# EAGLE library part TC7WZ07FK (library FaBo-LevelTranslator)
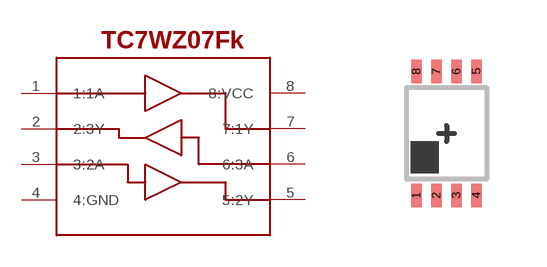
[diagram p15: symbol with the pads of SOT-765; footprint SOT-765]

Designator prefix -

## TC7WZ07FK  [SOT-765]
1  1:1A  in
2  2:3Y  oc
3  3:2A  in
4  4:GND  pwr
5  5:2Y  oc
6  6:3A  in
7  7:1Y  oc
8  8:VCC  pwr

## Footprint SOT-765 (pad centres in mm)
smd 0.3 x 0.6: 1 -0.75,-1.55; 2 -0.25,-1.55; 3 0.25,-1.55; 4 0.75,-1.55; 5 0.75,1.55; 6 0.25,1.55; 7 -0.25,1.55; 8 -0.75,1.55